# Altium integrated library ABM3-8.000MHZ-D2Y-T.IntLib: 1 symbol
Pins are listed as number, name and electrical type; pins without a type are passive.

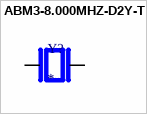
[diagram p0: symbol ABM3-8.000MHZ-D2Y-T]

## ABM3-8.000MHZ-D2Y-T
designator Y?
8 MHz Â±20ppm Crystal 18pF 140 Ohms 2-SMD, No Lead; MP: ABM3-8.000MHZ-D2Y-T; MF: Abracon; Purchase-URL: https://pricing.snapeda.com/search/part/ABM3-8.000MHZ-D2Y-T/?ref=eda; SnapEDA_Link: https://www.snapeda.com/parts/ABM3-8.000MHZ-D2Y-T/Abracon+LLC/view-part/?ref=snap; Value: *; Package: SMD-2 Abracon; Price: None; Availability: In Stock; Check_prices: https://www.snapeda.com/parts/ABM3-8.000MHZ-D2Y-T/Abracon+LLC/view-part/?ref=eda
footprint XTAL_ABM3-8.000MHZ-D2Y-T
pins: 1, 2